# Altium footprint library semicon.PCBLIB: 115 footprints (part 5 of 8)
Each footprint in its own frame and in the unit in brackets; x right, y up, seen from the top. Pads: shape width x height; smd on the part's side, far side on the other; paste and mask are expansions set on the pad; w line width, h text height; cw(c..) or ccw(c..) is an arc to the next point about the centre after c.
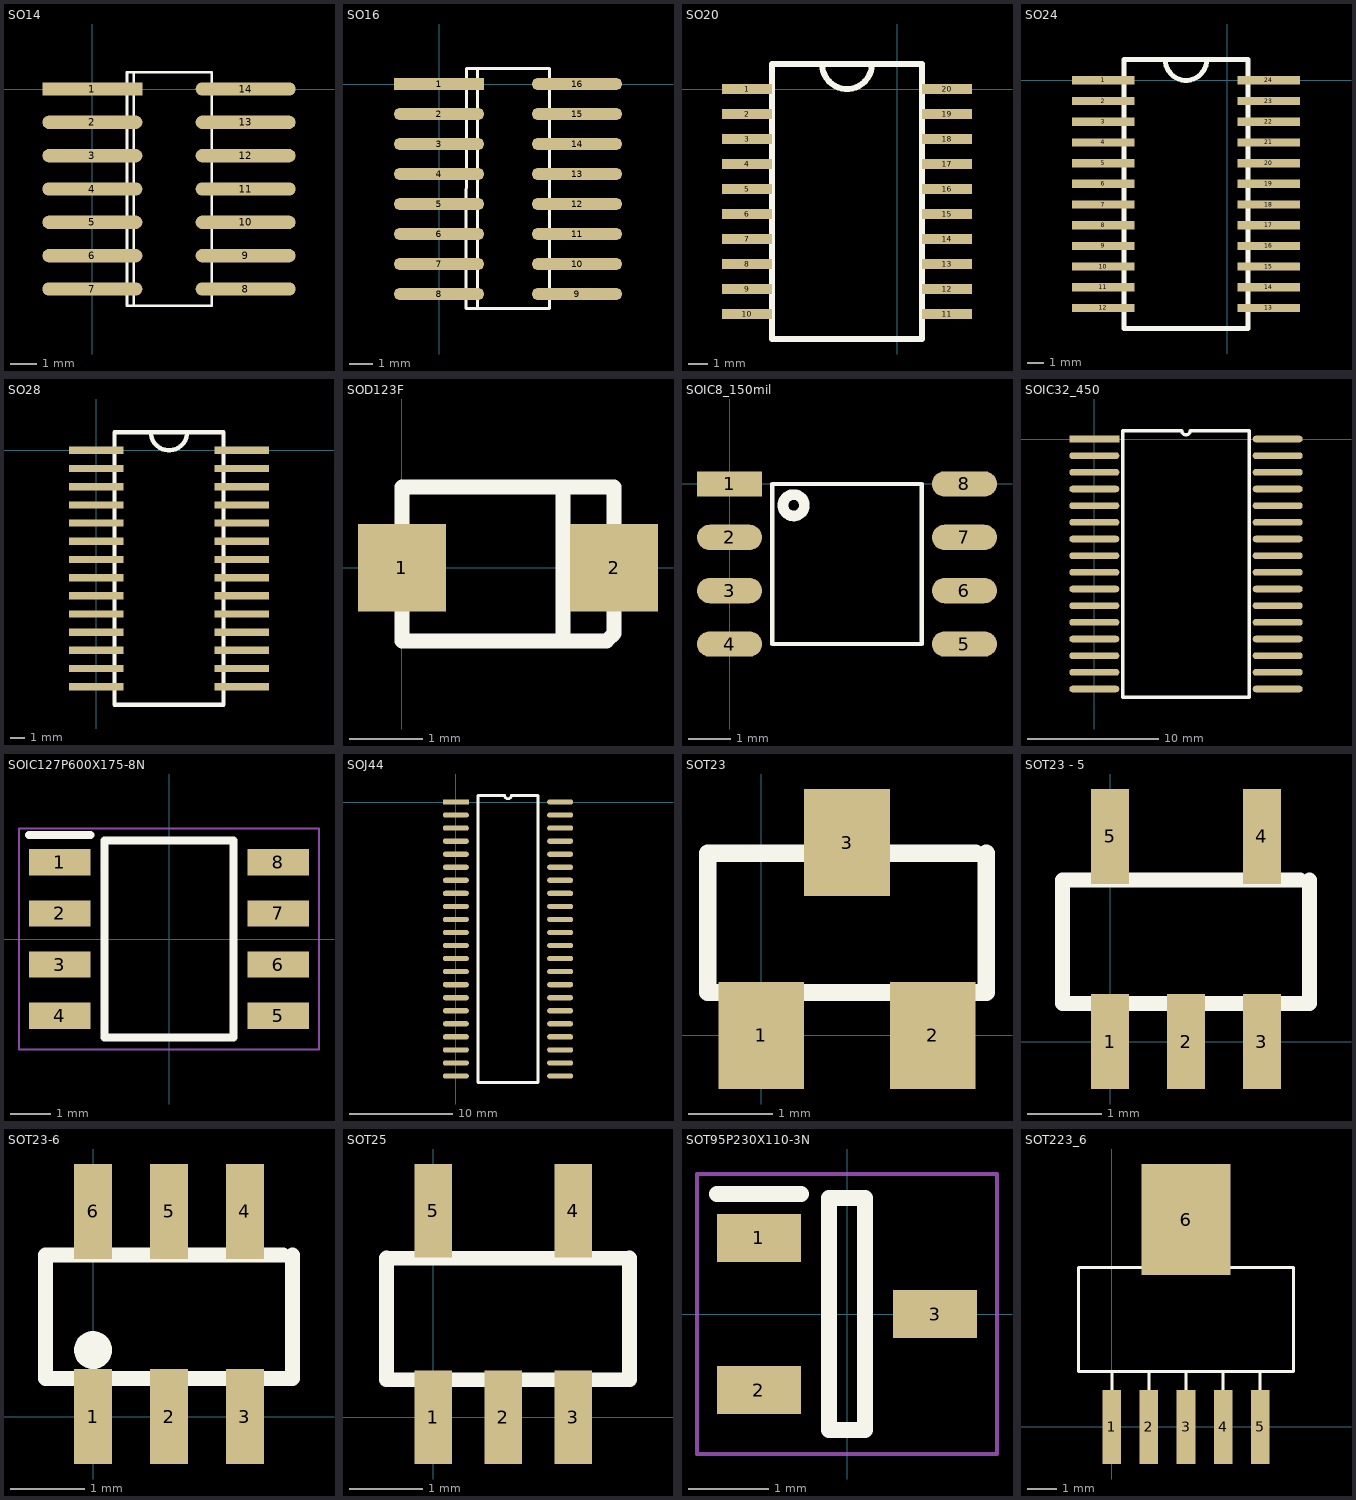
[diagram p4: the footprints below, top view; thin cyan lines are the x and y axes]

## SO14 [mil]
pads (14):
  rect 150x20 smd: 1(0,0)
  oval 150x20 smd: 2(0,-50) 3(0,-100) 4(0,-150) 5(0,-200) 6(0,-250) 7(0,-300) 8(230,-300) 9(230,-250) 10(230,-200) 11(230,-150) 12(230,-100) 13(230,-50) 14(230,0)
Top Overlay:
  lines w4: 62,-325 62,25 ; 178,-325 52,-325 52,25 178.5,25 ; 179,-325 179,25

## SO16 [mil]
pads (16):
  rect 150x20 smd: 1(0,0)
  oval 150x20 smd: 2(0,-50) 3(0,-100) 4(0,-150) 5(0,-200) 6(0,-250) 7(0,-300) 8(0,-350) 9(230,-350) 10(230,-300) 11(230,-250) 12(230,-200) 13(230,-150) 14(230,-100) 15(230,-50) 16(230,0)
Top Overlay:
  lines w5: 46,25 45,-374 184,-374 184,26 127,26 ; 46,26 130,26 ; 64,-374 64,26

## SO20 [mil]
pads (20):
  rect 100x20 smd: 1(-300,0) 2(-300,-50) 3(-300,-100) 4(-300,-150) 5(-300,-200) 6(-300,-250) 7(-300,-300) 8(-300,-350) 9(-300,-400) 10(-300,-450) 11(100,-450) 12(100,-400) 13(100,-350) 14(100,-300) 15(100,-250) 16(100,-200) 17(100,-150) 18(100,-100) 19(100,-50) 20(100,0)
Top Overlay:
  lines w12: -150,50 ccw(c-100,50) -50,50 ; -250,-500 -250,50 50,50 50,-500 -250,-500

## SO24 [mil]
pads (24):
  rect 150x20 smd: 1(-300,0) 2(-300,-50) 3(-300,-100) 4(-300,-150) 5(-300,-200) 6(-300,-250) 7(-300,-300) 8(-300,-350) 9(-300,-400) 10(-300,-450) 11(-300,-500) 12(-300,-550) 13(100,-550) 14(100,-500) 15(100,-450) 16(100,-400) 17(100,-350) 18(100,-300) 19(100,-250) 20(100,-200) 21(100,-150) 22(100,-100) 23(100,-50) 24(100,0)
Top Overlay:
  lines w12: -150,50 ccw(c-100,50) -50,50 ; -250,-600 -250,50 50,50 50,-600 -250,-600

## SO28 [mil]
pads (28):
  rect 150x20 smd: 1(0,0) 2(0,-50) 3(0,-100) 4(0,-150) 5(0,-200) 6(0,-250) 7(0,-300) 8(0,-350) 9(0,-400) 10(0,-450) 11(0,-500) 12(0,-550) 13(0,-600) 14(0,-650) 15(400,-650) 16(400,-600) 17(400,-550) 18(400,-500) 19(400,-450) 20(400,-400) 21(400,-350) 22(400,-300) 23(400,-250) 24(400,-200) 25(400,-150) 26(400,-100) 27(400,-50) 28(400,0)
Top Overlay:
  lines w12: 150,50 ccw(c200,50) 250,50 ; 50,-700 350,-700 350,50 50,50 50,-700

## SOD123F [mm]
pads (2):
  rect 1.2x1.2 smd: 1(0,0) 2(2.9,0)
Top Overlay:
  lines w0.203: 2.2,-1 2.2,1.1 ; 0,-1 2.8,-1 2.9,-0.9 2.9,1.1 0,1.1 0,-1

## SOIC8_150mil [mm]
pads (8):
  rect 1.55x0.6 smd: 1(0,0)
  oval 1.55x0.6 smd: 2(0,-1.27) 3(0,-2.54) 4(0,-3.81) 5(5.588,-3.81) 6(5.588,-2.54) 7(5.588,-1.27) 8(5.588,0)
Top Overlay:
  circle w0.254: c1.524,-0.508 r0.254
  lines w0.1: 1.016,-3.81 4.572,-3.81 4.572,0 1.016,0 1.016,-3.81

## SOIC32_450 [mil]
pads (32):
  rect 150x20 smd paste+0: 1(0,0)
  oval 150x20 smd paste+0: 2(0,-50) 3(0,-100) 4(0,-150) 5(0,-200) 6(0,-250) 7(0,-300) 8(0,-350) 9(0,-400) 10(0,-450) 11(0,-500) 12(0,-550) 13(0,-600) 14(0,-650) 15(0,-700) 16(0,-750) 17(550,-750) 18(550,-700) 19(550,-650) 20(550,-600) 21(550,-550) 22(550,-500) 23(550,-450) 24(550,-400) 25(550,-350) 26(550,-300) 27(550,-250) 28(550,-200) 29(550,-150) 30(550,-100) 31(550,-50) 32(550,0)
Top Overlay:
  lines w10: 85,-775 85,25 262.5,25 ccw(c275,25) 287.5,25 465,25 465,-775 85,-775

## SOIC127P600X175-8N [mm]
pads (8):
  rect 1.525x0.65 smd: 1(-2.712,1.905) 2(-2.712,0.635) 3(-2.712,-0.635) 4(-2.712,-1.905) 5(2.712,-1.905) 6(2.712,-0.635) 7(2.712,0.635) 8(2.712,1.905)
Top Overlay:
  lines w0.2: -3.475,2.58 -1.95,2.58 ; -1.6,-2.45 -1.6,2.45 1.6,2.45 1.6,-2.45 -1.6,-2.45
Mechanical 15:
  lines w0.05: -3.725,-2.75 -3.725,2.75 3.725,2.75 3.725,-2.75 -3.725,-2.75
3D body "NE555DR.stp": height 1.75, standoff 0, extent -3,-2.45 3,2.45

## SOJ44 [mil]
pads (44):
  rect 100x20 smd: 1(0,0)
  oval 100x20 smd: 2(0,-50) 3(0,-100) 4(0,-150) 5(0,-200) 6(0,-250) 7(0,-300) 8(0,-350) 9(0,-400) 10(0,-450) 11(0,-500) 12(0,-550) 13(0,-600) 14(0,-650) 15(0,-700) 16(0,-750) 17(0,-800) 18(0,-850) 19(0,-900) 20(0,-950) 21(0,-1000) 22(0,-1050) 23(400,-1050) 24(400,-1000) 25(400,-950) 26(400,-900) 27(400,-850) 28(400,-800) 29(400,-750) 30(400,-700) 31(400,-650) 32(400,-600) 33(400,-550) 34(400,-500) 35(400,-450) 36(400,-400) 37(400,-350) 38(400,-300) 39(400,-250) 40(400,-200) 41(400,-150) 42(400,-100) 43(400,-50) 44(400,0)
Top Overlay:
  lines w10: 85,-1075 315,-1075 315,25 212.5,25 cw(c200,25) 187.5,25 85,25 85,-1075

## SOT23 [mil]
pads (3):
  rect 40x50 smd: 1(0,0) 2(80,0) 3(40,90)
Top Overlay:
  lines w8: 100,85 -25,85 -25,20 105,20 105,85

## SOT23 - 5 [mil]
pads (5):
  rect 20x50 smd: 1(0,0) 2(40,0) 3(80,0) 4(80,108) 5(0,108)
Top Overlay:
  lines w8: 100,85 -25,85 -25,20 105,20 105,85

## SOT23-6 [mil]
pads (6):
  rect 20x50 smd: 1(0,0) 2(40,0) 3(80,0) 4(80,108) 5(40,108) 6(0,108)
Top Overlay:
  circle w10: c0,35 r5
  lines w8: 100,85 -25,85 -25,20 105,20 105,85

## SOT25 [mil]
pads (5):
  rect 20x50 smd: 1(0,0) 2(37.4,0) 3(74.8,0) 4(74.8,110.24) 5(0,110.24)
Top Overlay:
  lines w8: 104.33,84.65 -25,85 -25,20 105,20 105,85

## SOT95P230X110-3N [mm]
pads (3):
  rect 1.05x0.6 smd: 1(-1.1,0.95) 2(-1.1,-0.95) 3(1.1,0)
Top Overlay:
  lines w0.2: -1.625,1.5 -0.575,1.5 ; -0.225,-1.45 -0.225,1.45 0.225,1.45 0.225,-1.45 -0.225,-1.45
Mechanical 15:
  lines w0.05: -1.875,-1.75 -1.875,1.75 1.875,1.75 1.875,-1.75 -1.875,-1.75
3D body "PESD1CAN,215.stp": height 1.1, standoff 0, extent -1.15,-1.45 1.15,1.45

## SOT223_6 [mil]
pads (6):
  rect 25x100 smd: 1(0,0) 2(50,0) 3(100,0) 4(150,0) 5(200,0)
  rect 120x150 smd: 6(100,280)
Top Overlay:
  lines w3.94: 0,0 0,75 ; 50,0 50,75 ; 50,215 50,280 150,280 150,215 ; 100,0 100,75 ; 150,0 150,75 ; 200,0 200,75 ; -45,75 -45,215 245,215 245,75 -45,75